# Altium integrated library TSW-101-23-T-T.IntLib: 1 symbol
Pins are listed as number, name and electrical type; pins without a type are passive.

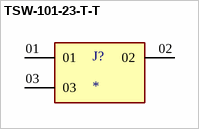
[diagram p0: symbol TSW-101-23-T-T]

## TSW-101-23-T-T
designator J?
MP: TSW-101-23-T-T; Package: None; Price: None; Value: *; Availability: Unavailable
footprint SAMTEC_TSW-101-23-T-T
pins: 01, 02, 03